# Altium footprint library ArduinoClone.PcbLib: 1 footprints
Each footprint in its own frame and in the unit in brackets; x right, y up, seen from the top. Pads: shape width x height; smd on the part's side, far side on the other; paste and mask are expansions set on the pad; w line width, h text height; cw(c..) or ccw(c..) is an arc to the next point about the centre after c.
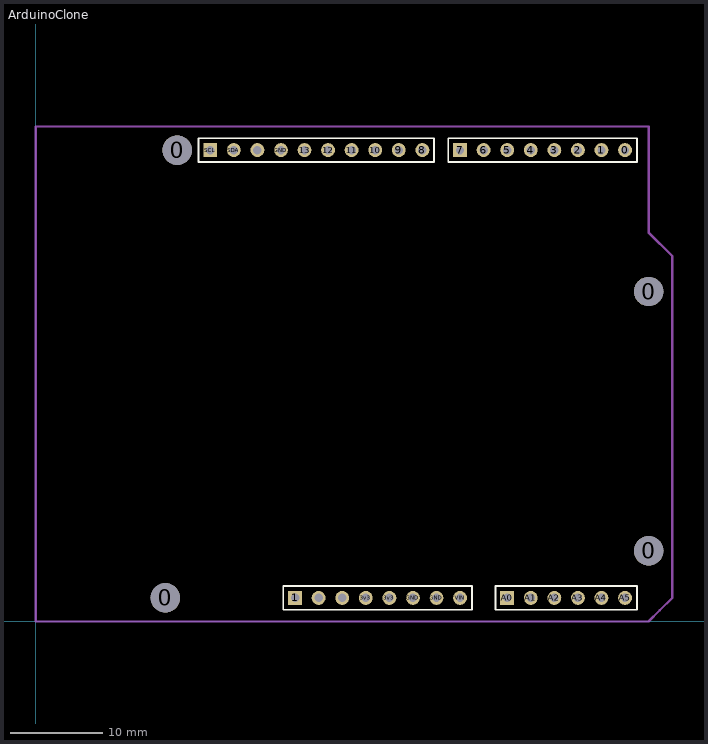
[diagram p0: the footprint, top view; thin cyan lines are the x and y axes]

## ArduinoClone [mm] "Base for Arduino-like boards."
pads (36):
  round 3.175 hole 3.175: 0(13.97,2.54) 0(15.24,50.8) 0(66.04,7.62) 0(66.04,35.56)
  round 1.5 hole 0.9: 0(63.5,50.8) 1(60.96,50.8) 2(58.42,50.8) 3(55.88,50.8) 3v3(35.56,2.54) 3v3(38.1,2.54) 4(53.34,50.8) 5(50.8,50.8) 6(48.26,50.8) 8(41.656,50.8) 9(39.116,50.8) 10(36.576,50.8) 11(34.036,50.8) 12(31.496,50.8) 13(28.956,50.8) A1(53.34,2.54) A2(55.88,2.54) A3(58.42,2.54) A4(60.96,2.54) A5(63.5,2.54) AREF(23.876,50.8) GND(26.416,50.8) GND(40.64,2.54) GND(43.18,2.54) IOREF(30.48,2.54) RESET(33.02,2.54) SDA(21.336,50.8) VIN(45.72,2.54)
  rect 1.5x1.5 hole 0.9: 1(27.94,2.54) 7(45.72,50.8) A0(50.8,2.54) SCL(18.796,50.8)
Top Overlay:
  lines w0.2: 17.526,49.53 17.526,52.07 19.431,52.07 42.926,52.07 42.926,49.53 17.526,49.53 ; 26.67,1.27 26.67,3.81 46.99,3.81 46.99,1.27 26.67,1.27 ; 44.45,49.53 64.77,49.53 64.77,52.07 44.45,52.07 44.45,49.53 ; 49.53,1.27 64.77,1.27 64.77,3.81 49.53,3.81 49.53,1.27
Board Outline:
  lines w0.254: 0,0 0,53.34 66.04,53.34 66.04,41.91 68.58,39.37 68.58,2.54 67.246,1.206 66.04,0 0,0